# EAGLE library part LTC4231 (library linear)
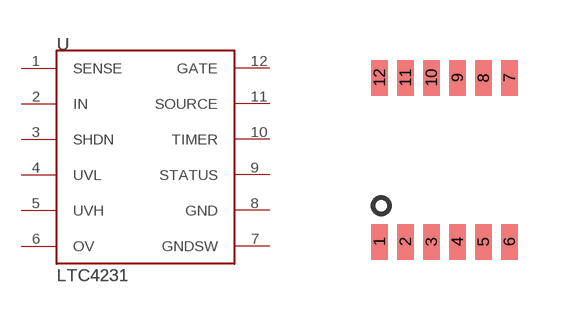
[diagram p315: symbol with the pads of LTC4231; footprint LTC4231]

Designator prefix -

## LTC4231  [LTC4231]
1  SENSE
2  IN
3  SHDN
4  UVL
5  UVH
6  OV
7  GNDSW
8  GND
9  STATUS
10  TIMER
11  SOURCE
12  GATE

## Footprint LTC4231 (pad centres in mm)
smd 0.42 x 0.889: 1 -1.65,-2.05; 2 -1,-2.05; 3 -0.35,-2.05; 4 0.3,-2.05; 5 0.95,-2.05; 6 1.6,-2.05; 7 1.6,2.05; 8 0.95,2.05; 9 0.3,2.05; 10 -0.35,2.05; 11 -1,2.05; 12 -1.65,2.05